# Altium footprint library LEDM1608X80.PcbLib: 1 footprints
Each footprint in its own frame and in the unit in brackets; x right, y up, seen from the top. Pads: shape width x height; smd on the part's side, far side on the other; paste and mask are expansions set on the pad; w line width, h text height; cw(c..) or ccw(c..) is an arc to the next point about the centre after c.
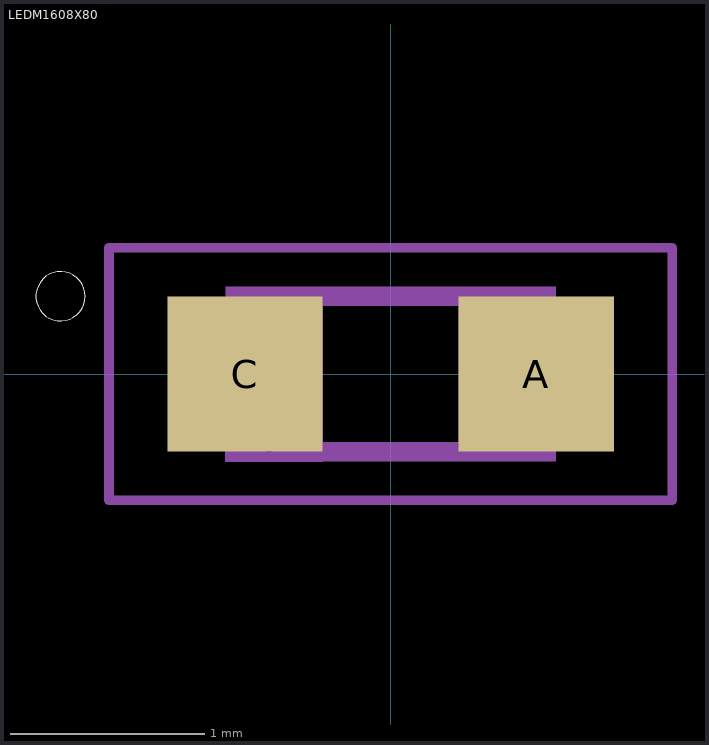
[diagram p0: the footprint, top view; thin cyan lines are the x and y axes]

## LEDM1608X80 [mm]
pads (2):
  rect 0.8x0.8 smd: A(0.75,0) C(-0.75,0)
Top Overlay:
  circle w0: c-1.7,0.4 r0.127
Mechanical 13:
  circle w0.051: c-0.625,-0.35 r0.075
  region: -0.7,-0.451 -0.851,-0.451 -0.851,-0.25 -0.7,-0.25
  region: -0.55,-0.275 -0.6,-0.275 -0.6,-0.225 -0.55,-0.225
  region: -0.35,-0.451 -0.726,-0.451 -0.726,-0.4 -0.35,-0.4
  region: -0.55,0.25 -0.85,0.25 -0.85,0.45 -0.55,0.45
  region: -0.351,-0.451 -0.576,-0.451 -0.576,0.451 -0.351,0.451
  region: 0.85,-0.45 0.35,-0.45 0.35,-0.25 0.85,-0.25
  region: 0.85,0.25 0.35,0.25 0.35,0.45 0.85,0.45
  region: 0.575,-0.275 0.35,-0.275 0.35,0.275 0.575,0.275
  region: 0.651,-0.275 0.55,-0.275 0.55,-0.176 0.651,-0.176
  region: 0.65,0.175 0.55,0.175 0.55,0.275 0.65,0.275
  lines w0.051: 0.825,-0.275 cw(c0.825,0) 0.825,0.275
  lines w0.102: -0.8,-0.3 ccw(c-0.826,0) -0.8,0.3 ; -0.375,-0.4 0.35,-0.4 ; -0.35,0.4 0.35,0.4
Mechanical 15:
  lines w0.05: -1.45,-0.65 1.45,-0.65 1.45,0.65 -1.45,0.65 -1.45,-0.65
3D body "step_temp.STEP": height 0.8, standoff 0, extent -0.8,-0.4 0.8,0.4